# EAGLE library part 61900611121 (library Wuerth_Elektronik_eiCan_Wire_to_Board_Connectors v1.2)
WR-WTB 2.54mm Male Locking Header, 6 Pins
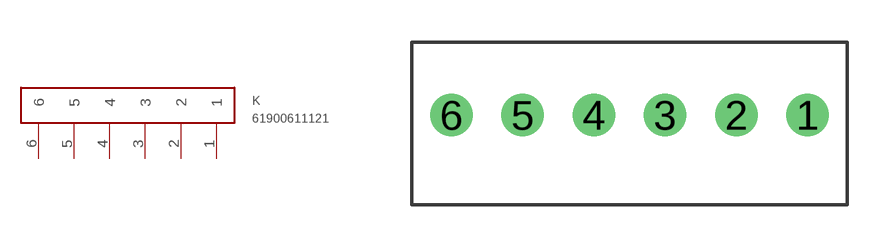
[diagram p5: symbol with the pads of 61900611121; footprint 61900611121]

Designator prefix K

## 61900611121  [61900611121]
1  1
2  2
3  3
4  4
5  5
6  6

## Footprint 61900611121 (pad centres in mm)
WR-WTB 2.54mm Male Locking Header, 6 Pins
drill 1 round: 1 1.27,0; 2 -1.27,0; 3 -3.81,0; 4 -6.35,0; 5 -8.89,0; 6 -11.43,0